# Altium schematic symbol library Coaxial.SchLib: 2 symbols
Pins are listed as number, name and electrical type; pins without a type are passive.

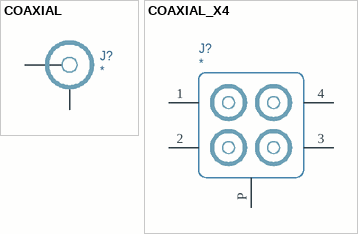
[diagram p0: symbols COAXIAL to COAXIAL_X4]

## COAXIAL
designator J?
pins: 1 CORE, 2 SHIELD

## COAXIAL_X4
designator J?
pins: 1, 2, 3, 4, P GND